# Altium integrated library STPS20SM60D.IntLib: 1 symbol
Pins are listed as number, name and electrical type; pins without a type are passive.

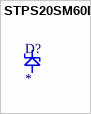
[diagram p0: symbol STPS20SM60D]

## STPS20SM60D
designator D?
Diode Schottky 60V 20A Through Hole TO-220AC; MF: STMicroelectronics; MP: STPS20SM60D; Price: None; Purchase-URL: https://pricing.snapeda.com/search/part/STPS20SM60D/?ref=eda; Value: *; Check_prices: https://www.snapeda.com/parts/STPS20SM60D/STMicroelectronics/view-part/727029/?ref=eda; Package: TO-220 STMicroelectronics; SnapEDA_Link: https://www.snapeda.com/parts/STPS20SM60D/STMicroelectronics/view-part/727029/?ref=snap; Availability: Warning
footprint TO-220-2
pins: 1 K (io), 3 A (io)